# Altium schematic symbol library ECW-F2475JA.SchLib: 1 symbol
Pins are listed as number, name and electrical type; pins without a type are passive.

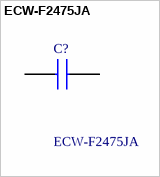
[diagram p0: symbol ECW-F2475JA]

## ECW-F2475JA
designator C?
Film Capacitors 4.7uF 250VDC 5% MPP L/S=20mm; Manufacturer_Name: Panasonic; Geometry.Height: 22.1mm; Mouser Part Number: 667-ECW-F2475JA; Mouser Price/Stock: https://www.mouser.co.uk/ProductDetail/Panasonic/ECW-F2475JA?qs=GoZnPdyRfjbTFkwsw7ZE%252Bg%3D%3D; Manufacturer_Part_Number: ECW-F2475JA; Datasheet Link: https://componentsearchengine.com/Datasheets/1/ECW-F2475JA.pdf
footprint ECWF2475JA
pins: 1, 2